# EAGLE library part RP164PJ221CS (library resistor-net1)
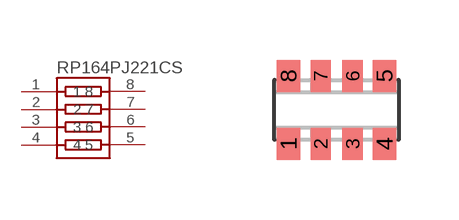
[diagram p17: symbol with the pads of RP164PJ221CS; footprint RP164PJ221CS]

Designator prefix -

## RP164PJ221CS  [RP164PJ221CS]
1  1
2  2
3  3
4  4
5  5
6  6
7  7
8  8

## Footprint RP164PJ221CS (pad centres in mm)
smd 0.598 x 0.8: 1 -1.2,-0.85; 4 1.2,-0.85; 5 1.2,0.85; 8 -1.2,0.85
smd 0.5 x 0.8: 2 -0.4,-0.85; 3 0.4,-0.85; 6 0.4,0.85; 7 -0.4,0.85